# Altium schematic symbol library DIO-LED-1S.Schlib: 1 symbol
Pins are listed as number, name and electrical type; pins without a type are passive.

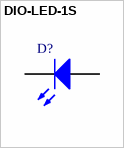
[diagram p0: symbol DIO-LED-1S]

## DIO-LED-1S
designator D?
Typical GREEN SMD LED Agilent make
pins: 1 A, 2 K